# Altium schematic symbol library ABRACON CRYSTAL ABM10.SchLib: 1 symbol
Pins are listed as number, name and electrical type; pins without a type are passive.

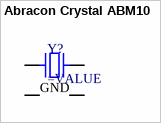
[diagram p0: symbol Abracon Crystal ABM10]

## Abracon Crystal ABM10
designator Y?
SMT Crystal
pins: 1, 2 GND, 3, 4 GND